# Altium schematic symbol library LDO.SchLib: 21 symbols
Pins are listed as number, name and electrical type; pins without a type are passive.

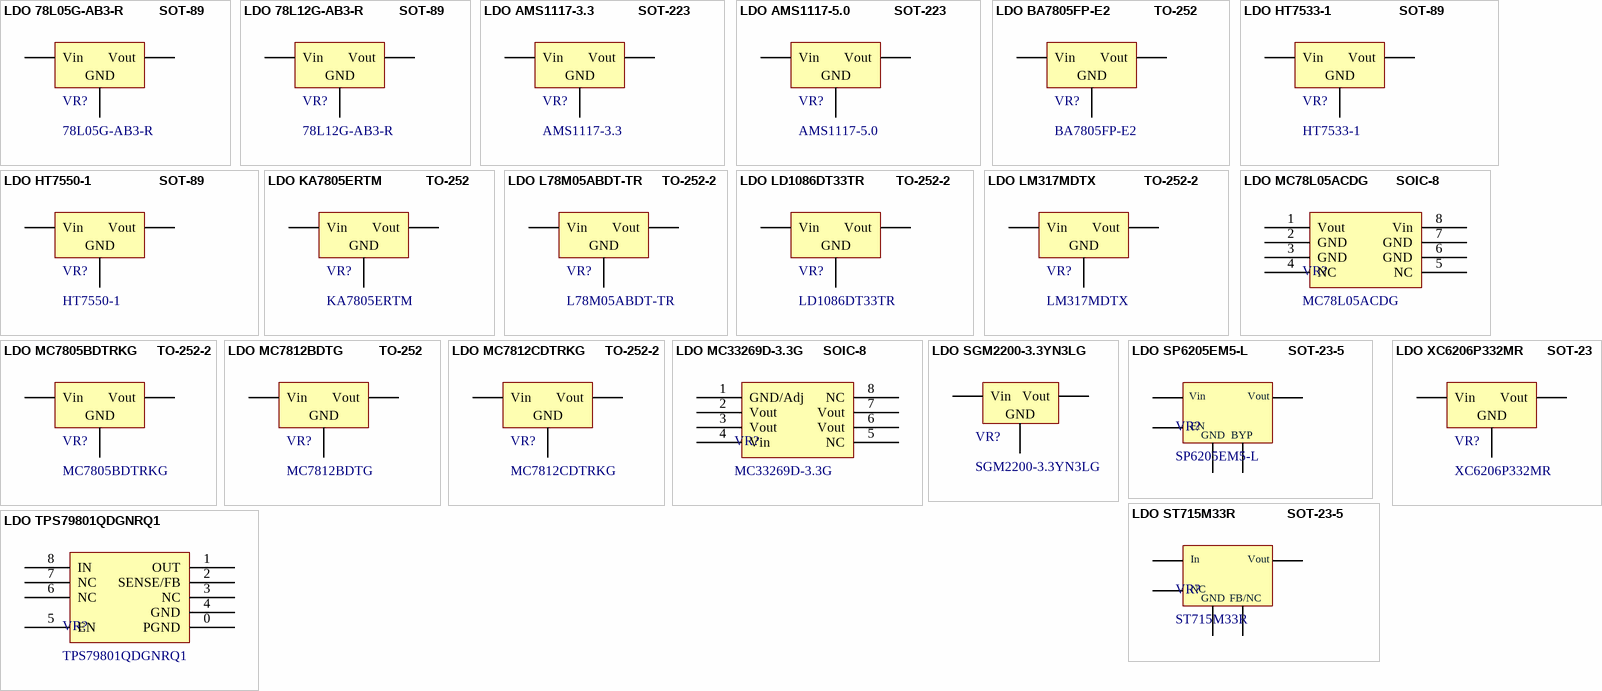
[diagram p0: symbols LDO 78L05G-AB3-R         SOT-89 to LDO XC6206P332MR      SOT-23]

## LDO 78L05G-AB3-R         SOT-89
designator VR?, comment 78L05G-AB3-R
低压差线性稳压(LDO); Package: SOT-89; Supplier: LC; SuppliersPartNumber: C71136; ComponentLink1Description: 立创商城链接; ComponentLink1URL: https://item.szlcsc.com/72235.html
footprint SOT89-3
pins: 1 Vout, 2 GND, 3 Vin

## LDO 78L12G-AB3-R         SOT-89
designator VR?, comment 78L12G-AB3-R
低压差线性稳压(LDO); Package: SOT-89; Supplier: LC; SuppliersPartNumber: C75501; ComponentLink1Description: 立创商城链接; ComponentLink1URL: https://item.szlcsc.com/76626.html
footprint SOT89-3
pins: 1 Vout, 2 GND, 3 Vin

## LDO AMS1117-3.3           SOT-223
designator VR?, comment AMS1117-3.3
低压差线性稳压(LDO); Package: SOT-223; Supplier: LC; SuppliersPartNumber: C6186; ComponentLink1Description: 立创商城链接; ComponentLink1URL: https://item.szlcsc.com/6652.html
footprint SOT223
pins: 1 GND, 2 Vout, 3 Vin

## LDO AMS1117-5.0           SOT-223
designator VR?, comment AMS1117-5.0
低压差线性稳压(LDO); Package: SOT-223; Supplier: LC; SuppliersPartNumber: C6187; ComponentLink1Description: 立创商城链接; ComponentLink1URL: https://item.szlcsc.com/6653.html
footprint SOT223
pins: 1 GND, 2 Vout, 3 Vin

## LDO BA7805FP-E2           TO-252
designator VR?, comment BA7805FP-E2
低压差线性稳压(LDO); Package: SOT-89; Supplier: LC; SuppliersPartNumber: C71136; ComponentLink1Description: 立创商城链接; ComponentLink1URL: https://item.szlcsc.com/80782.html
footprint TO252 (252晶体管)
pins: 1 Vin, 2 GND, 3 Vout

## LDO HT7533-1                 SOT-89
designator VR?, comment HT7533-1
低压差线性稳压(LDO); Package: SOT-89; Supplier: LC; SuppliersPartNumber: C14289; ComponentLink1Description: 立创商城链接; ComponentLink1URL: https://item.szlcsc.com/14949.html
footprint SOT89-3
pins: 1 GND, 2 Vin, 3 Vout

## LDO HT7550-1                 SOT-89
designator VR?, comment HT7550-1
低压差线性稳压(LDO); Package: SOT-89; Supplier: LC; SuppliersPartNumber: C16106; ComponentLink1Description: 立创商城链接; ComponentLink1URL: https://item.szlcsc.com/16788.html
footprint SOT89-3
pins: 1 GND, 2 Vin, 3 Vout

## LDO KA7805ERTM           TO-252
designator VR?, comment KA7805ERTM
低压差线性稳压(LDO); Package: SOT-89; Supplier: LC; SuppliersPartNumber: C71136; ComponentLink1Description: 立创商城链接; ComponentLink1URL: https://item.szlcsc.com/250123.html
footprint TO252 (252晶体管)
pins: 1 Vin, 2 GND, 3 Vout

## LDO L78M05ABDT-TR     TO-252-2
designator VR?, comment L78M05ABDT-TR
低压差线性稳压(LDO); Package: TO-252-2; Supplier: LC; SuppliersPartNumber: C58069; ComponentLink1Description: 立创商城链接; ComponentLink1URL: https://item.szlcsc.com/59107.html
footprint TO252 (252晶体管)
pins: 1 Vin, 2 GND, 3 Vout

## LDO LD1086DT33TR        TO-252-2
designator VR?, comment LD1086DT33TR
低压差线性稳压(LDO); Package: TO-252-2; Supplier: LC; SuppliersPartNumber: C75510; ComponentLink1Description: 立创商城链接; ComponentLink1URL: https://item.szlcsc.com/12615.html
footprint TO252 (252晶体管)
pins: 1 GND, 2 Vout, 3 Vin

## LDO LM317MDTX            TO-252-2
designator VR?, comment LM317MDTX
低压差线性稳压(LDO); Package: TO-252-2; Supplier: LC; SuppliersPartNumber: C75510; ComponentLink1Description: 立创商城链接; ComponentLink1URL: https://item.szlcsc.com/232561.html
footprint TO252 (252晶体管)
pins: 1 GND, 2 Vout, 3 Vin

## LDO MC78L05ACDG       SOIC-8
designator VR?, comment MC78L05ACDG
低压差线性稳压器(LDO); ComponentLink1Description: 立创商城链接; ComponentLink1URL: https://item.szlcsc.com/232528.html
footprint SOIC8_150mil
pins: 1 Vout, 2 GND, 3 GND, 4 NC, 5 NC, 6 GND, 7 GND, 8 Vin

## LDO MC7805BDTRKG     TO-252-2
designator VR?, comment MC7805BDTRKG
低压差线性稳压(LDO); Package: TO-252-2; Supplier: LC; SuppliersPartNumber: C58069; ComponentLink1Description: 立创商城链接; ComponentLink1URL: https://item.szlcsc.com/112133.html
footprint TO252 (252晶体管)
pins: 1 Vin, 2 GND, 3 Vout

## LDO MC7812BDTG         TO-252
designator VR?, comment MC7812BDTG
低压差线性稳压(LDO); Package: TO-252-2; Supplier: LC; SuppliersPartNumber: C58069; ComponentLink1Description: 立创商城链接; ComponentLink1URL: https://item.szlcsc.com/233103.html
footprint TO252 (252晶体管)
pins: 1 Vin, 2 GND, 3 Vout

## LDO MC7812CDTRKG     TO-252-2
designator VR?, comment MC7812CDTRKG
低压差线性稳压(LDO); Package: TO-252-2; Supplier: LC; SuppliersPartNumber: C58069; ComponentLink1Description: 立创商城链接; ComponentLink1URL: https://item.szlcsc.com/114773.html
footprint TO252 (252晶体管)
pins: 1 Vin, 2 GND, 3 Vout

## LDO MC33269D-3.3G     SOIC-8
designator VR?, comment MC33269D-3.3G
低压差线性稳压器(LDO); ComponentLink1Description: 立创商城链接; ComponentLink1URL: https://item.szlcsc.com/232276.html
footprint SOIC8_150mil
pins: 1 GND/Adj, 2 Vout, 3 Vout, 4 Vin, 5 NC, 6 Vout, 7 Vout, 8 NC

## LDO SGM2200-3.3YN3LG
designator VR?, comment SGM2200-3.3YN3LG
低压差线性稳压(LDO); Package: SOT-23; Supplier: LC; SuppliersPartNumber: C5446; ComponentLink1Description: 立创商城链接; ComponentLink1URL: https://item.szlcsc.com/82078.html
footprint SOT23-3
pins: 1 GND, 2 Vout, 3 Vin

## LDO SP6205EM5-L          SOT-23-5
designator VR?, comment SP6205EM5-L
低压差线性稳压器(LDO); ComponentLink1Description: 立创商城链接; ComponentLink1URL: https://item.szlcsc.com/82723.html
footprint SOT23-5
pins: 1 Vin, 2  GND, 3 EN, 4 BYP, 5 Vout

## LDO ST715M33R             SOT-23-5
designator VR?, comment ST715M33R
低压差线性稳压器(LDO); ComponentLink1Description: 立创商城链接; ComponentLink1URL: https://item.szlcsc.com/110132.html
footprint SOT23-5
pins: 1 FB/NC, 2  GND, 3 NC, 4 IN, 5 Vout
text: In

## LDO TPS79801QDGNRQ1
designator VR?, comment TPS79801QDGNRQ1
低压差线性稳压器(LDO); ComponentLink1Description: 立创商城链接; ComponentLink1URL: https://item.szlcsc.com/140631.html
footprint TSSOP8 3X3_150Mil
pins: 0 PGND, 1 OUT, 2 SENSE/FB, 3 NC, 4 GND, 5 EN, 6 NC, 7 NC, 8 IN

## LDO XC6206P332MR      SOT-23
designator VR?, comment XC6206P332MR
低压差线性稳压(LDO); Package: SOT-23; Supplier: LC; SuppliersPartNumber: C5446; ComponentLink1Description: 立创商城链接; ComponentLink1URL: https://item.szlcsc.com/324036.html
footprint SOT23-3L (http://www.aosmd.com/res/packaging_information/SOT-23-3L.pdf)
pins: 1 GND, 2 Vout, 3 Vin